# Altium schematic symbol library 电容.SchLib: 93 symbols
Pins are listed as number, name and electrical type; pins without a type are passive.

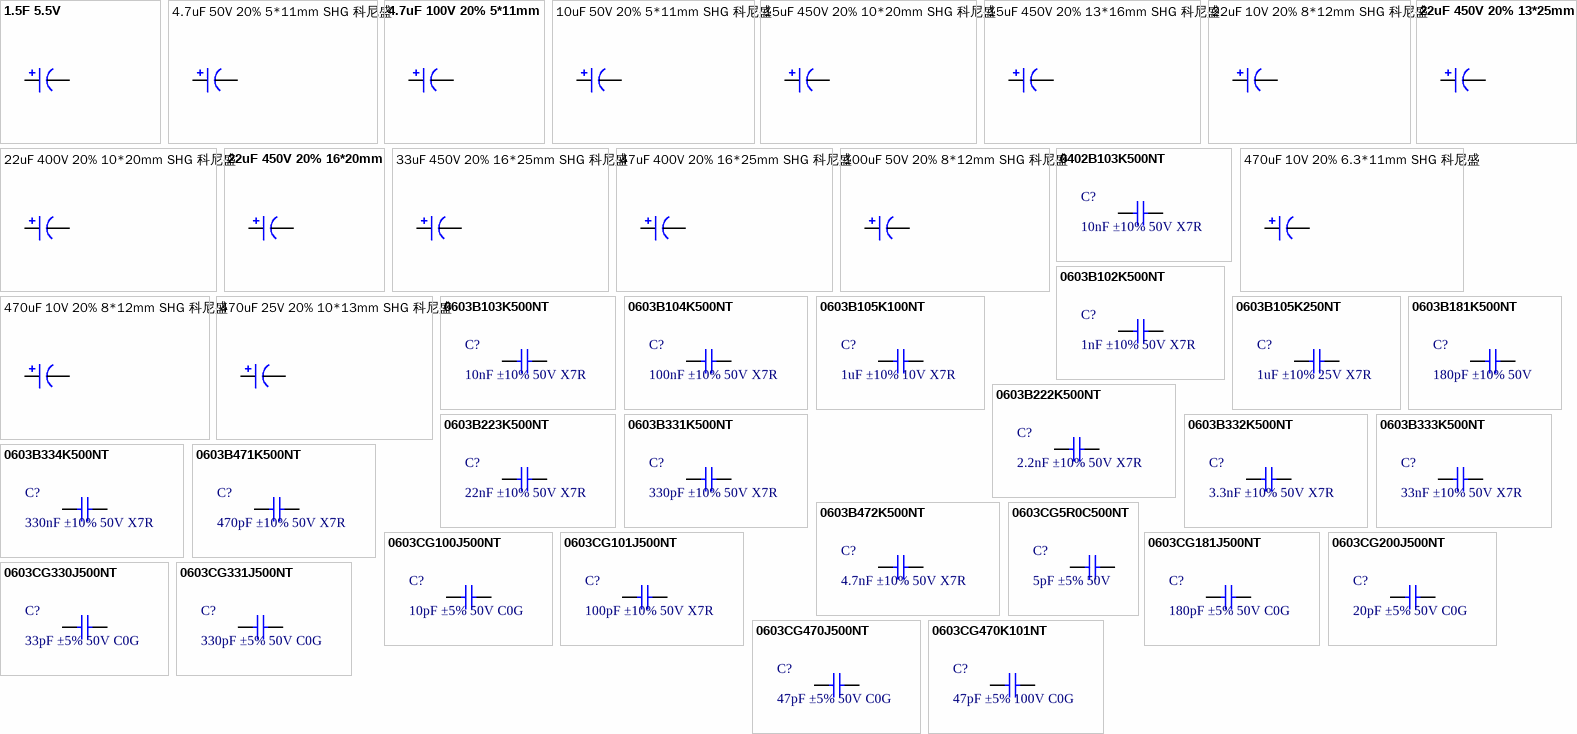
[diagram p0: symbols 1.5F 5.5V to 0603CG470K101NT]

## 1.5F 5.5V
designator CAP?
超级电容 V型 P=5mm; 金蝶料号: 010101080001; 工作温度: -25~70; 插件/贴片: 插件; 器件状态: 启用; 厂家型号: 1.5F 5.5V; ComponentLink1Description: datasheet; ComponentLink1URL: *
footprint CAP_SUP-4.5*19mm
pins: 1, 2

## 4.7uF 50V 20% 5*11mm SHG 科尼盛
designator CAP?, comment 4.7uF 50V 20%
插件电解电容  4.7uF ±20% 50V 7000h 5mm*11mm P=2mm; 厂家: 科尼盛; 厂家型号: 4.7uF 50V 20%  SHG; 金蝶料号: 010101040025; 工作温度: -55℃∽ +105℃; 插件/贴片: 插件; 器件状态: 启用; 值: 4.7uF ±20% 50V 7000h 5mm*11mm P=2mm; ComponentLink1Description: New link; ComponentLink1URL: *
footprint CAP 2.0*5*11 (Footprint not found)
pins: 1, 2

## 4.7uF 100V 20% 5*11mm
designator CAP?, comment 4.7uF 100V 20%
插件电解电容  4.7uF ±20% 100V 7000h 5mm*11mm P=2mm; 厂家: 科尼盛; 厂家型号: 4.7uF 100V 20%  SHG; 金蝶料号: 010101040051; 工作温度: -55℃∽ +105℃; 插件/贴片: 插件; 器件状态: 启用; 值: 4.7uF ±20% 100V; ComponentLink1Description: New link; ComponentLink1URL: *
footprint CAP 2.0*5*11 (Footprint not found)
pins: 1, 2

## 10uF 50V 20% 5*11mm SHG 科尼盛
designator CAP?, comment 10uF 50V 20%
插件电解电容  10uF ±20% 50V 7000h 5mm*11mm P=2mm; 厂家: 科尼盛; 厂家型号: 10uF 50V 20%  SHG; 金蝶料号: 010101040046; 工作温度: -55℃∽ +105℃; 插件/贴片: 插件; 器件状态: 启用; ComponentLink1Description: New link; ComponentLink1URL: *
footprint CAP 2.0*5*11 (Footprint not found)
pins: 1, 2

## 15uF 450V 20% 10*20mm SHG 科尼盛
designator CAP?, comment 15uF 450V 20%
插件电解电容 15uF 450V 20% 10*20mm P=5mm; 厂家: 科尼盛; 厂家型号: 15uF 450V 20% 10*20mm SHG; 金蝶料号: 010101040039; 工作温度: -40℃∽ +105℃; 插件/贴片: 插件; 器件状态: 启用; 值: 15uF 450V 20%; ComponentLink1Description: New link; ComponentLink1URL: *
footprint CAP 5.0*10*20 (脚距5mm直径10mm高度20mm)
footprint CAP 5.0*10*20-H (脚距5mm直径10mm高度20mm)
pins: 1, 2

## 15uF 450V 20% 13*16mm SHG 科尼盛
designator CAP?, comment 15uF 450V 20%
插件电解电容 15uF 450V 20% 13*16mm P=5mm; 厂家: 科尼盛; 厂家型号: 15uF 450V 20% 13*16mm  SHG; 金蝶料号: 010101040040; 工作温度: -40℃∽ +105℃; 插件/贴片: 插件; 器件状态: 启用; 值: 15uF 450V 20%; ComponentLink1Description: New link; ComponentLink1URL: *
footprint CAP 5.0*13*16 (脚距5mm直径13mm高度16mm)
footprint CAP 5.0*13*16-H (脚距5mm直径13mm高度16mm)
pins: 1, 2

## 22uF 10V 20% 8*12mm SHG 科尼盛
designator CAP?, comment 1000uF 10V 20%
插件电解电容  1000uF 10V 20% 8000H 8*12mm P=3.5mm; 厂家: 科尼盛; 厂家型号: 1000uF 10V 20% 10*20mm SHG; 金蝶料号: 010101040023; 工作温度: -55℃∽ +105℃; 插件/贴片: 插件; 器件状态: 启用; 值: 1000uF 10V 20% 8000H 8*12mm P=3.5mm; ComponentLink1Description: New link; ComponentLink1URL: *
footprint CAP 5.0*13*20 (脚距5mm直径13mm高度20mm)
footprint CAP 5.0*13*20-H (脚距5mm直径13mm高度20mm)
pins: 1, 2

## 22uF 400V 20% 10*20mm SHG 科尼盛
designator CAP?, comment 22uF 400V 20%
插件电解电容  22uF ±20% 400V 10000h 10*20mm P=5mm; 厂家: 科尼盛; 厂家型号: 22uF 400V 20%  SHG; 金蝶料号: 010101040044; 工作温度: -40℃∽ +105℃; 插件/贴片: 插件; 器件状态: 启用; ComponentLink1Description: New link; ComponentLink1URL: *
footprint CAP 5.0*10*20 (脚距5mm直径10mm高度20mm)
pins: 1, 2

## 22uF 450V 20% 13*25mm
designator CAP?, comment 22uF 450V 20%
插件电解电容 22uF 450V 20% 13*25mm P=5mm; 厂家: 科尼盛; 厂家型号: 22uF 450V 20% 13*25mm  SHG; 金蝶料号: 010101040049; 工作温度: -40℃∽ +105℃; 插件/贴片: 插件; 器件状态: 启用; 值: 22uF 450V 20%; ComponentLink1Description: New link; ComponentLink1URL: *
footprint CAP 5.0*12.5*25 (脚距5mm直径12.5mm高度25mm)
footprint CAP 5.0*12.5*25-H (脚距5mm直径12.5mm高度25mm)
pins: 1, 2

## 22uF 450V 20% 16*20mm
designator CAP?, comment 22uF 450V 20%
插件电解电容 22uF 450V 20% 16*20mm P=7.5mm; 厂家: 科尼盛; 厂家型号: 22uF 450V 20% 16*20mm  SHG; 金蝶料号: 010101040050; 工作温度: -40℃∽ +105℃; 插件/贴片: 插件; 器件状态: 启用; 值: 22uF 450V 20%; ComponentLink1Description: New link; ComponentLink1URL: *
footprint CAP 7.5*16*20-H (脚距7.5mm直径16mm高度20mm)
footprint CAP 7.5*16*20 (脚距7.5mm直径16mm高度20mm)
pins: 1, 2

## 33uF 450V 20% 16*25mm SHG 科尼盛
designator CAP?, comment 33uF 450V 20%
插件电解电容 33uF 450V 20% 16*25mm P=7.5mm; 厂家: 科尼盛; 厂家型号: 33uF 450V 20% 16*25mm  SHG; 金蝶料号: 010101040041; 工作温度: -40℃∽ +105℃; 插件/贴片: 插件; 器件状态: 启用; 值: 33uF 450V 20%; ComponentLink1Description: New link; ComponentLink1URL: *
footprint CAP 7.5*16*25 (脚距7.5mm直径16mm高度25mm)
footprint CAP 7.5*16*25-H (脚距7.5mm直径16mm高度25mm)
pins: 1, 2

## 47uF 400V 20% 16*25mm SHG 科尼盛
designator CAP?, comment 47uF 400V 20%
插件电解电容  47uF ±20% 400V 10000h 16*25mm P=7.5mm; 厂家: 科尼盛; 厂家型号: 47uF 400V 20%  SHG; 金蝶料号: 010101040024; 工作温度: -40℃∽ +105℃; 插件/贴片: 插件; 器件状态: 启用; 值: 47uF ±20% 400V 10000h 16*25mm P=7.5mm; ComponentLink1Description: New link; ComponentLink1URL: *
footprint CAP 7.5*16*25-H (脚距7.5mm直径16mm高度25mm)
pins: 1, 2

## 100uF 50V 20% 8*12mm SHG 科尼盛
designator CAP?, comment 100uF 50V  20%
插件电解电容  100uF 50V 20% 8000H 8*12mm P=3.5mm; 厂家: 科尼盛; 厂家型号: 100uF 25V 20% 8*12mm SHG; 金蝶料号: 010101040044; 工作温度: -55℃∽ +105℃; 插件/贴片: 插件; 器件状态: 启用; ComponentLink1Description: New link; ComponentLink1URL: *
footprint CAP 3.5*8*11.5 (脚距3.5mm直径8mm高度11.5mm)
pins: 1, 2

## 0402B103K500NT
designator C?, comment 10nF ±10% 50V X7R
贴片电容 10nF ±10% 50V X7R 0402; 厂家: 风华; 厂家型号: 0402B103K500NT; 金蝶料号: 010101010087; 工作温度: -55~125℃; 插件/贴片: 贴片; 器件状态: 启用; 值: 10nF
footprint 0402_C
pins: 1, 2

## 470uF 10V 20% 6.3*11mm SHG 科尼盛
designator CAP?, comment 470uF 10V 20%
插件电解电容  470uF ±20% 10V 7000h 6.3mm*11mm P=2.5mm; 厂家: 科尼盛; 厂家型号: 470uF 10V 20%  SHG 6.3*11mm; 金蝶料号: 010101040026; 工作温度: -55℃∽ +105℃; 插件/贴片: 插件; 器件状态: 启用; 值: 470uF ±20% 10V 7000h 6.3mm*11mm P=2.5mm; ComponentLink1Description: New link; ComponentLink1URL: *
footprint CAP 2.5*6.3*11 (脚距2.5mm直径6.3mm高度11.2mm)
pins: 1, 2

## 470uF 10V 20% 8*12mm SHG 科尼盛
designator CAP?, comment 470uF 10V 20%
插件电解电容  470uF ±20% 10V 8000h 8mm*12mm P=3.5mm; 厂家: 科尼盛; 厂家型号: 470uF 10V 20%  SHG; 金蝶料号: 010101040021; 工作温度: -55℃∽ +105℃; 插件/贴片: 插件; 器件状态: 启用; 值: 470uF ±20% 10V 8000h 8mm*12mm P=3.5mm; ComponentLink1Description: New link; ComponentLink1URL: *
footprint CAP 3.5*8*12 (脚距3.5mm直径8mm高度11.5mm)
pins: 1, 2

## 470uF 25V 20% 10*13mm SHG 科尼盛
designator CAP?, comment 470uF 25V 20%
插件电解电容  470uF ±20% 25V 10000h 10mm*13mm P=5mm; 厂家: 科尼盛; 厂家型号: 470uF 25V 20%  SHG; 金蝶料号: 010101040043; 工作温度: -55℃∽ +105℃; 插件/贴片: 插件; 器件状态: 启用; ComponentLink1Description: New link; ComponentLink1URL: *
footprint CAP 5.0*10*12.5 (脚距5mm直径10mm高度12.5mm)
pins: 1, 2

## 0603B102K500NT
designator C?, comment 1nF ±10% 50V X7R
贴片电容 1nF ±10% 50V X7R 0603; 厂家: 风华; 厂家型号: 0603B102K500NT; 金蝶料号: 010101010094; 工作温度: -55~125℃; 插件/贴片: 贴片; 器件状态: 启用; 值: 1nF ±10% 50V X7R 0603
footprint 0603_C
pins: 1, 2

## 0603B103K500NT
designator C?, comment 10nF ±10% 50V X7R
贴片电容 10nF ±10% 50V X7R 0603; 厂家: 风华; 厂家型号: 0603B103K500NT; 金蝶料号: 010101010099; 工作温度: -55~125℃; 插件/贴片: 贴片; 器件状态: 启用; 值: 10nF
footprint 0603_C
pins: 1, 2

## 0603B104K500NT
designator C?, comment 100nF ±10% 50V X7R
贴片电容 100nF ±10% 50V X7R 0603; 厂家: 风华; 厂家型号: 0603B104K500NT; 金蝶料号: 010101010100; 工作温度: -55~125℃; 插件/贴片: 贴片; 器件状态: 启用; 值: 100nF
footprint 0603_C
pins: 1, 2

## 0603B105K100NT
designator C?, comment 1uF ±10% 10V X7R
贴片电容 1uF ±10% 10V X7R 0603; 厂家: 风华; 厂家型号: 0603B105K100NT; 金蝶料号: 010101010143; 工作温度: -55~125℃; 插件/贴片: 贴片; 器件状态: 启用; 值: 1uF
footprint 0603_C
pins: 1, 2

## 0603B105K250NT
designator C?, comment 1uF ±10% 25V X7R
贴片电容 1uF ±10% 25V X7R 0603; 厂家: 风华; 厂家型号: 0603B105K250NT; 金蝶料号: 010101010083; 工作温度: -55~125℃; 插件/贴片: 贴片; 器件状态: 在用; 值: 1uF
footprint 0603_C
pins: 1, 2

## 0603B181K500NT
designator C?, comment 180pF ±10% 50V
贴片电容 180pF ±10% 50V X7R 0603; 厂家: 风华; 厂家型号: 0603B181K500NT; 金蝶料号: 010101010060; 工作温度: -55~125℃; 插件/贴片: 贴片; 器件状态: 启用; 值: 180pF
footprint 0603_C
pins: 1, 2

## 0603B222K500NT
designator C?, comment 2.2nF ±10% 50V X7R
贴片电容 2.2nF ±10% 50V X7R 0603; 厂家: 风华; 厂家型号: 0603B222K500NT; 金蝶料号: 010101010077; 工作温度: -55~155℃; 插件/贴片: 贴片; 值: 100pF; 器件状态: 启用
footprint 0603_C
pins: 1, 2

## 0603B223K500NT
designator C?, comment 22nF ±10% 50V X7R
贴片电容 22nF ±10% 50V X7R 0603; 厂家: 风华; 厂家型号: 0603B223K500NT; 金蝶料号: 010101010080; 工作温度: -55~125℃; 插件/贴片: 贴片; 器件状态: 启用; 值: 22nF
footprint 0603_C
pins: 1, 2

## 0603B331K500NT
designator C?, comment 330pF ±10% 50V X7R
贴片电容 330pF ±10% 50V X7R 0603; 厂家: 风华; 厂家型号: 0603B331K500NT; 金蝶料号: 010101010073; 工作温度: -55~125℃; 插件/贴片: 贴片; 器件状态: 启用; 值: 330pF
footprint 0603_C
pins: 1, 2

## 0603B332K500NT
designator C?, comment 3.3nF ±10% 50V X7R
贴片电容 3.3nF ±10% 50V X7R 0603; 厂家: 风华; 厂家型号: 0603B332K500NT; 金蝶料号: 010101010097; 工作温度: -55~125℃; 插件/贴片: 贴片; 器件状态: 启用; 值: 3.3nF
footprint 0603_C
pins: 1, 2

## 0603B333K500NT
designator C?, comment 33nF ±10% 50V X7R
贴片电容 33nF ±10% 50V X7R 0603; 厂家: 风华; 厂家型号: 0603B333K500NT; 金蝶料号: 010101010102; 工作温度: -55~125℃; 插件/贴片: 贴片; 器件状态: 启用; 值: 33nF
footprint 0603_C
pins: 1, 2

## 0603B334K500NT
designator C?, comment 330nF ±10% 50V X7R
贴片电容 330nF ±10% 50V X7R 0603; 厂家: 风华; 厂家型号: 0603B334K500NT; 金蝶料号: 010101010136; 工作温度: -55~125℃; 插件/贴片: 贴片; 器件状态: 启用; 值: 330nF ±10% 50V X7R
footprint 0603_C
pins: 1, 2

## 0603B471K500NT
designator C?, comment 470pF ±10% 50V X7R
贴片电容 470pF ±10% 50V X7R 0603; 厂家: 风华; 厂家型号: 0603B471K500NT; 金蝶料号: 010101010103; 工作温度: -55~125℃; 插件/贴片: 贴片; 器件状态: 启用; 值: 470pF
footprint 0603_C
pins: 1, 2

## 0603B472K500NT
designator C?, comment 4.7nF ±10% 50V X7R
贴片电容 4.7nF ±10% 50V X7R 0603; 厂家: 风华; 厂家型号: 0603B472K500NT; 金蝶料号: 010101010105; 工作温度: -55~125℃; 插件/贴片: 贴片; 器件状态: 启用; 值: 4.7nF
footprint 0603_C
pins: 1, 2

## 0603CG5R0C500NT
designator C?, comment 5pF ±5% 50V
贴片电容 5pF ±5% 50V C0G 0603; 厂家: 风华; 厂家型号: 0603CG5R0C500NT; 金蝶料号: 010101010070; 工作温度: -55~125℃; 插件/贴片: 贴片; 器件状态: 启用; 值: 5pF
footprint 0603_C
pins: 1, 2

## 0603CG100J500NT
designator C?, comment 10pF ±5% 50V C0G
贴片电容10pF ±5% 50V C0G 0603; 厂家: 风华; 厂家型号: 0603CG100J500NT; 金蝶料号: 010101010033; 工作温度: ℃; 插件/贴片: 贴片; 器件状态: 启用; 值: 10pF
footprint 0603_C
pins: 1, 2

## 0603CG101J500NT
designator C?, comment 100pF ±10% 50V X7R
贴片电容 100pF ±10% 50V NP0 0603; 厂家: 风华; 厂家型号: 0603B101K500NT; 金蝶料号: 010101010081; 工作温度: -55~125℃; 插件/贴片: 贴片; 器件状态: 启用; 值: 100pF
footprint 0603_C
pins: 1, 2

## 0603CG181J500NT
designator C?, comment 180pF ±5% 50V C0G
贴片电容 180pF ±5% 50V C0G 0603; 厂家: 风华; 厂家型号: 0603CG181J500NT; 金蝶料号: 010101010101; 工作温度: -55~125℃; 插件/贴片: 贴片; 器件状态: 启用; 值: 180pF
footprint 0603_C
pins: 1, 2

## 0603CG200J500NT
designator C?, comment 20pF ±5% 50V C0G
贴片电容 20pF ±5% 50V C0G 0603; 厂家: 风华; 厂家型号: 0603CG200J500NT; 金蝶料号: 010101010045; 工作温度: -55~125℃; 插件/贴片: 贴片; 器件状态: 启用; 值: 20pF
footprint 0603_C
pins: 1, 2

## 0603CG330J500NT
designator C?, comment 33pF ±5% 50V C0G
贴片电容 33pF ±5% 50V C0G 0603; 厂家: 风华; 厂家型号: 0603CG330J500NT; 金蝶料号: 010101010048; 工作温度: -55~125℃; 插件/贴片: 贴片; 器件状态: 启用; 值: 33pF
footprint 0603_C
pins: 1, 2

## 0603CG331J500NT
designator C?, comment 330pF ±5% 50V C0G
贴片电容 330pF ±5% 50V C0G 0603; 厂家: 风华; 厂家型号: 0603CG331J500NT; 金蝶料号: 010101010090; 工作温度: -55~125℃; 插件/贴片: 贴片; 器件状态: 启用; 值: 330pF
footprint 0603_C
pins: 1, 2

## 0603CG470J500NT
designator C?, comment 47pF ±5% 50V C0G
贴片电容 47pF ±5% 50V C0G 0603; 厂家: 风华; 厂家型号: 0603CG470J500NT; 金蝶料号: 010101010027; 工作温度: -55~125℃; 插件/贴片: 贴片; 器件状态: 启用; 值: 47pF
footprint 0603_C
pins: 1, 2

## 0603CG470K101NT
designator C?, comment 47pF ±5% 100V C0G
贴片电容 47pF ±5% 100V C0G 0603; 厂家: 风华; 厂家型号: 0603CG470K101NT; 金蝶料号: 010101010096; 工作温度: ℃; 插件/贴片: 贴片; 器件状态: 启用; 值: 47pF
footprint 0603_C
pins: 1, 2

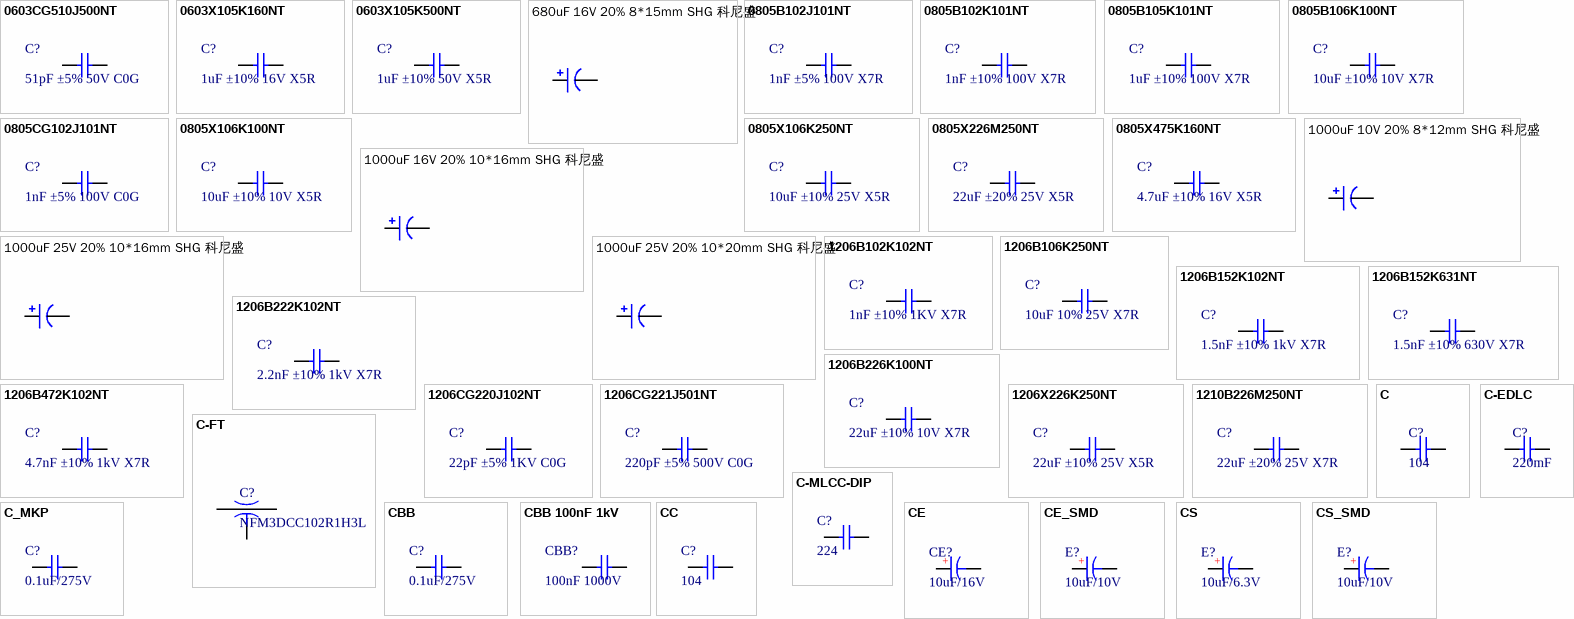
[diagram p1: symbols 0603CG510J500NT to CS_SMD]

## 0603CG510J500NT
designator C?, comment 51pF ±5% 50V C0G
贴片电容 51pF ±5% 50V C0G 0603; 厂家: 风华; 厂家型号: 0603CG510J500NT; 金蝶料号: 010101010071; 工作温度: -55~125℃; 插件/贴片: 贴片; 器件状态: 启用; 值: 51pF
footprint 0603_C
pins: 1, 2

## 0603X105K160NT
designator C?, comment 1uF ±10% 16V X5R
贴片电容 1uF ±10% 16V X5R 0603; 厂家: 风华; 厂家型号: 0603X105K160NT; 金蝶料号: 010101010112; 工作温度: -55~125℃; 插件/贴片: 贴片; 器件状态: 启用; 值: 1uF
footprint 0603_C
pins: 1, 2

## 0603X105K500NT
designator C?, comment 1uF ±10% 50V X5R
贴片电容 1uF ±10% 50V X5R 0603; 厂家: 风华; 厂家型号: 0603X105K500NT; 金蝶料号: 010101010123; 工作温度: -55~125℃; 插件/贴片: 贴片; 器件状态: 启用; 值: 1uF
footprint 0603_C
pins: 1, 2

## 680uF 16V 20% 8*15mm SHG 科尼盛
designator CAP?, comment 680uF 16V 20%
插件电解电容  680uF ±20% 16V 8000h 8mm*15mm P=3.5mm; 厂家: 科尼盛; 厂家型号: 680uF 16V 20% 8*15mm SHG; 金蝶料号: 010101040027; 工作温度: -55℃~+105℃; 插件/贴片: 插件; 器件状态: 启用; 值: 680uF ±20% 16V 8000h 8mm*15mm P=3.5mm; ComponentLink1Description: New link; ComponentLink1URL: *
footprint CAP 3.5*8*15 (脚距3.5mm直径8mm高度15mm)
pins: 1, 2

## 0805B102J101NT
designator C?, comment 1nF ±5% 100V X7R
贴片电容 1nF ±5% 100V X7R 0805; 厂家: 风华; 厂家型号: 0805B102J101NT; 金蝶料号: 010101010111; 工作温度: -55~125℃; 插件/贴片: 贴片; 器件状态: 启用; 值: 1nF
footprint 0805_C
pins: 1, 2

## 0805B102K101NT
designator C?, comment 1nF ±10% 100V X7R
贴片电容 1nF ±10% 100V X7R 0805; 厂家: 风华; 厂家型号: 0805B102K101NT; 金蝶料号: 010101010098; 工作温度: -55~125℃; 插件/贴片: 贴片; 器件状态: 启用; 值: 1nF
footprint 0805_C
pins: 1, 2

## 0805B105K101NT
designator C?, comment 1uF ±10% 100V X7R
贴片电容 1uF ±10% 100V X7R 0805; 厂家: 风华; 厂家型号: 0805B105K101NT; 金蝶料号: 010101010113; 工作温度: -55~125℃; 插件/贴片: 贴片; 器件状态: 启用; 值: 1uF
footprint 0805_C
pins: 1, 2

## 0805B106K100NT
designator C?, comment 10uF ±10% 10V X7R
贴片电容 10uF ±10% 10V X7R 0805; 厂家: 风华; 厂家型号: 0805B106K100NT; 金蝶料号: 010101010130; 工作温度: -55~85℃; 插件/贴片: 贴片; 器件状态: 启用; 值: 10uF
footprint 0805_C
pins: 1, 2

## 0805CG102J101NT
designator C?, comment 1nF ±5% 100V C0G
贴片电容 1nF ±5% 100V C0G 0805; 厂家: 风华; 厂家型号: 0805CG102J101NT; 金蝶料号: 010101010092; 工作温度: ℃; 插件/贴片: 贴片; 器件状态: 启用; 值: *
footprint 0805_C
pins: 1, 2

## 0805X106K100NT
designator C?, comment 10uF ±10% 10V X5R
贴片电容 10uF ±10% 10V X5R 0805; 厂家: 风华; 厂家型号: 0805X106K100NT; 金蝶料号: 010101010095; 工作温度: -55~85℃; 插件/贴片: 贴片; 器件状态: 启用; 值: 10uF
footprint 0805_C
pins: 1, 2

## 0805X106K250NT
designator C?, comment 10uF ±10% 25V X5R
贴片电容 10uF ±10% 25V X5R 0805; 厂家: 风华; 厂家型号: 0805X106K250NT; 金蝶料号: 010101010104; 工作温度: -55~85℃; 插件/贴片: 贴片; 器件状态: 启用; 值: 10uF
footprint 0805_C
pins: 1, 2

## 0805X226M250NT
designator C?, comment 22uF ±20% 25V X5R
贴片电容 22uF ±20% 25V X5R 0805; 厂家: 风华; 厂家型号: 0805X226M250NT; 金蝶料号: 010101010085; 工作温度: -55~85℃; 插件/贴片: 贴片; 器件状态: 启用; 值: 22uF
footprint 0805_C
pins: 1, 2

## 0805X475K160NT
designator C?, comment 4.7uF ±10% 16V X5R
贴片电容 4.7uF ±10% 16V X5R 0805; 厂家: 风华; 厂家型号: 0805X475K160NT; 金蝶料号: 010101010086; 工作温度: -55~85℃; 插件/贴片: 贴片; 器件状态: 启用; 值: 4.7uF
footprint 0603_C
pins: 1, 2

## 1000uF 10V 20% 8*12mm SHG 科尼盛
designator CAP?, comment 1000uF 10V 20%
插件电解电容  1000uF 10V 20% 8000H 8*12mm P=3.5mm; 厂家: 科尼盛; 厂家型号: 1000uF 10V 20% 10*20mm SHG; 金蝶料号: 010101040023; 工作温度: -55℃∽ +105℃; 插件/贴片: 插件; 器件状态: 启用; 值: 1000uF 10V 20% 8000H 8*12mm P=3.5mm; ComponentLink1Description: New link; ComponentLink1URL: *
footprint CAP 3.5*8*12 (脚距3.5mm直径8mm高度11.5mm)
pins: 1, 2

## 1000uF 16V 20% 10*16mm SHG 科尼盛
designator CAP?, comment 1000uF 16V 20%
插件电解电容  1000uF 16V 20% 10000H 10*16mm P=5mm; 厂家: 科尼盛; 厂家型号: 1000uF 16V 20% 10*20mm SHG; 金蝶料号: 010101040016; 工作温度: -55℃∽ +105℃; 插件/贴片: 插件; 器件状态: 启用; 值: 1000uF 16V 20% 10000H 10*16mm P=5mm; ComponentLink1Description: New link; ComponentLink1URL: *
footprint CAP 5.0*10*16 (Footprint not found)
pins: 1, 2

## 1000uF 25V 20% 10*16mm SHG 科尼盛
designator CAP?, comment 1000uF 25V 20%
插件电解电容  1000uF 25V 20% 10000H 10*16mm P=5mm; 厂家: 科尼盛; 厂家型号: 1000uF 25V 20% 10*16mm SHG; 金蝶料号: 010101040022; 工作温度: -55℃∽ +105℃; 插件/贴片: 插件; 器件状态: 启用; 值: 1000uF 25V 20% 10000H 10*16mm P=5mm; ComponentLink1Description: New link; ComponentLink1URL: *
footprint CAP 5.0*10*16 (脚距5mm直径10mm高度16mm)
pins: 1, 2

## 1000uF 25V 20% 10*20mm SHG 科尼盛
designator CAP?, comment 1000uF 25V 20%
插件电解电容  1000uF 25V 20% 10000H 10*20mm P=5mm; 厂家: 科尼盛; 厂家型号: 1000uF 25V 20% 10*20mm SHG; 金蝶料号: 010101040015; 工作温度: -55℃∽ +105℃; 插件/贴片: 插件; 器件状态: 启用; 值: 1000uF 25V 20% 10000H 10*20mm P=5mm; ComponentLink1Description: New link; ComponentLink1URL: *
footprint CAP 5.0*10*20 (脚距5mm直径10mm高度20mm)
pins: 1, 2

## 1206B102K102NT
designator C?, comment 1nF ±10% 1KV X7R
贴片电容 1nF ±10% 1KV X7R 1206; 厂家: 风华; 厂家型号: 1206B226M100NT; 金蝶料号: 010101010135; 工作温度: -55~125℃; 插件/贴片: 贴片; 器件状态: 在用; 值: 1nF ±10% 1KV X7R 1206
footprint 1206_C
pins: 1, 2

## 1206B106K250NT
designator C?, comment 10uF 10% 25V X7R
贴片电容 10uF ±10% 25V X7R 1206; 厂家: 风华; 厂家型号: 1206B106K250NT; 金蝶料号: 010101010082; 工作温度: -55~125℃; 插件/贴片: 贴片; 器件状态: 在用; 值: 10uF
footprint 1206_C
pins: 1, 2

## 1206B152K102NT
designator C?, comment 1.5nF ±10% 1kV X7R
贴片电容 1.5nF ±10% 1kV X7R 1206; 厂家: 风华; 厂家型号: 1206B152K102NT; 金蝶料号: 010101010093; 工作温度: -55~125℃; 插件/贴片: 贴片; 器件状态: 启用; 值: 1.5nF
footprint 1206_C
pins: 1, 2

## 1206B152K631NT
designator C?, comment 1.5nF ±10% 630V X7R
贴片电容 1.5nF ±10% 630V X7R 1206; 厂家: 风华; 厂家型号: 1206B152K631NT; 金蝶料号: 010101010107; 工作温度: -55~125℃; 插件/贴片: 贴片; 器件状态: 启用; 值: 1.5nF
footprint 1206_C
pins: 1, 2

## 1206B222K102NT
designator C?, comment 2.2nF ±10% 1kV X7R
贴片电容 2.2nF ±10% 1kV X7R 1206; 厂家: 风华; 厂家型号: 1206B222K102NT; 金蝶料号: 010101010137; 工作温度: -55~125℃; 插件/贴片: 贴片; 器件状态: 启用
footprint 1206_C
pins: 1, 2

## 1206B226K100NT
designator C?, comment 22uF ±10% 10V X7R
贴片电容 22uF ±10% 10V X7R 1206; 厂家: 风华; 厂家型号: 1206B226K100NT; 金蝶料号: 010101010140; 工作温度: -55~125℃; 插件/贴片: 贴片; 器件状态: 在用; 值: 22uF
footprint 1206_C
pins: 1, 2

## 1206B472K102NT
designator C?, comment 4.7nF ±10% 1kV X7R
贴片电容 4.7nF ±10% 1kV X7R 1206; 厂家: 风华; 厂家型号: 1206B472K102NT; 金蝶料号: 010101010138; 工作温度: -55~125℃; 插件/贴片: 贴片; 器件状态: 启用
footprint 1206_C
pins: 1, 2

## 1206CG220J102NT
designator C?, comment 22pF ±5% 1KV C0G
贴片电容 22pF ±5% 1KV C0G 1206; 厂家: 风华; 厂家型号: 1206CG220J102NT; 金蝶料号: 010101010134; 工作温度: -55~125℃; 插件/贴片: 贴片; 器件状态: 在用; 值: 22pF ±5% 1KV C0G 1206
footprint 1206_C
pins: 1, 2

## 1206CG221J501NT
designator C?, comment 220pF ±5% 500V C0G
贴片电容 220pF ±5% 500V C0G 1206; 厂家: 风华; 厂家型号: 1206CG221J501NT; 金蝶料号: 010101010139; 工作温度: -55~125℃; 插件/贴片: 贴片; 器件状态: 在用
footprint 1206_C
pins: 1, 2

## 1206X226K250NT
designator C?, comment 22uF ±10% 25V X5R
贴片电容 22uF ±10% 25V X5R 1206; 厂家: 风华; 厂家型号: 1206X226K250NT; 金蝶料号: 010101010091; 工作温度: -55~125℃; 插件/贴片: 贴片; 器件状态: 在用; 值: 22uF
footprint 1206_C
pins: 1, 2

## 1210B226M250NT
designator C?, comment 22uF ±20% 25V X7R
贴片电容 22uF ±20% 25V X7R 1210; 厂家: 风华; 厂家型号: 1210B226M250NT; 金蝶料号: 010101010132; 工作温度: -55~125℃; 插件/贴片: 贴片; 器件状态: 在用; 值: 22uF
footprint 1210_C
pins: 1, 2

## C
designator C?, comment 104
贴片电容/MLCC电容; BOM名称: 无极性贴片电容; 当前库版本V2023.5.31 @淘宝卖家:黄晶宝石: 最新版本发布https://item.taobao.com/item.htm?id=566775463719
footprint C0201_L (贴片MLCC电容)
footprint C0402_L (贴片MLCC电容)
footprint C1206_L (贴片MLCC电容)
footprint C1210_L (贴片MLCC电容)
footprint C1808_L (贴片MLCC电容)
footprint C1812_L (贴片MLCC电容                  联系卖家 免费查找封装)
footprint C1825_L (贴片MLCC电容)
footprint C2225_L (贴片MLCC电容)
footprint C0201_M (贴片MLCC电容                联系卖家 免费查找封装)
footprint C0402_M (贴片MLCC电容)
footprint C0603_M (贴片MLCC电容)
footprint C1206_M (贴片MLCC电容)
footprint C1210_M (贴片MLCC电容)
footprint C1808_M (贴片MLCC电容)
footprint C1812_M (贴片MLCC电容)
footprint C1825_M (贴片MLCC电容      联系卖家 免费查找封装)
footprint C2225_M (贴片MLCC电容)
footprint C0201_NS (贴片MLCC电容-无丝印)
footprint C0402_NS (贴片MLCC电容-无丝印)
footprint C1206_NS (贴片MLCC电容-无丝印)
footprint C1210_NS (贴片MLCC电容 -无丝印)
footprint C0204_NS (贴片MLCC电容-无丝印)
footprint C1111_NS (贴片MLCC电容-无丝印)
footprint C2220 (贴片MLCC电容)
footprint C3838 (贴片MLCC电容-无丝印)
pins: 1, 2

## C-EDLC
designator C?, comment 220mF
超级电容/双电层电容器; BOM名称: 法拉电容; 当前库版本V2023.5.31 @淘宝卖家:黄晶宝石: 最新版本发布https://item.taobao.com/item.htm?id=566775463719
footprint C-EDLC-TH_D21.5-P5.00-H7.5 (双电层电容器)
pins: 1, 2

## C-FT
designator C?, comment NFM3DCC102R1H3L
贴片馈通电容/穿芯三端滤波电容; 当前库版本V2023.5.31 @淘宝卖家:黄晶宝石: 最新版本发布https://item.taobao.com/item.htm?id=566775463719; BOM名称: NFM3DCC102R1H3L
footprint C1205_FT_4P-L3.2-W1.3 (贴片穿心电容馈通滤波器)
pins: 1, 2, 3

## C-MLCC-DIP
designator C?, comment 224
直插独石电容; BOM名称: 独石电容; 当前库版本V2023.5.31 @淘宝卖家:黄晶宝石: 最新版本发布https://item.taobao.com/item.htm?id=566775463719
footprint MLCC5.08-A (独石电容，脚距5.08mm)
pins: 1, 2

## C_MKP
designator C?, comment 0.1uF/275V
金属化聚丙烯薄膜电容; BOM名称: X电容; 当前库版本V2023.5.31 @淘宝卖家:黄晶宝石: 最新版本发布https://item.taobao.com/item.htm?id=566775463719
footprint MKP_P22.5-L26-W6-H16-D1.0
footprint MKP_P27.5-L31.5-W11.0-H21.0-D1.0
footprint MKP_P27.5-L31.5-W13.0-H23.0-D1.0
pins: 1, 2

## CBB
designator C?, comment 0.1uF/275V
CBB电容; 当前库版本V2023.5.31 @淘宝卖家:黄晶宝石: 最新版本发布https://item.taobao.com/item.htm?id=566775463719; BOM名称: CBB电容
footprint CBB 10*12*8 (脚距10mm高12mm厚8mm)
footprint CBB 15*18*11 (脚距15mm高18mm厚11mm)
footprint CBB 20*23*17 (脚距20mm高23mm厚17mm)
footprint CBB 5*6.3*3 (脚距5mm高6.3mm厚3mm)
footprint CBB-CL71 (7.2mm*2.3mm*6.5mm(长*宽*高）)
pins: 1, 2

## CBB 100nF 1kV
designator CBB?, comment 100nF 1000V
CBB 100nF 1000V P=15mm; 厂家型号: CBB 100nF 1kV; 金蝶料号: 010101070007; 工作温度: -40~105℃; 插件/贴片: 插件; 器件状态: 启用
footprint CY P=10mm
pins: 1, 2

## CC
designator C?, comment 104
瓷片电容; BOM名称: 直插瓷片电容; 当前库版本V2023.5.31 @淘宝卖家:黄晶宝石: 最新版本发布https://item.taobao.com/item.htm?id=566775463719
footprint CC 1.8*3.6 (脚距1.8mm直径3.6mm)
footprint CC 2.2*5 (脚距2.2mm直径5mm)
pins: 1, 2

## CE
designator CE?, comment 10uF/16V
直插电解电容; 当前库版本V2023.5.31 @淘宝卖家:黄晶宝石: 最新版本发布https://item.taobao.com/item.htm?id=566775463719; BOM名称: 直插电解电容
footprint CE-1.5*4*8 (直插电解电容-脚距1.5mm直径4mm高度8mm)
footprint CE-1.5*4*8 - BK (直插电解电容-脚距1.5mm直径4mm高度8mm      联系卖家 免费查找封装)
footprint CE-1.5*4*8 - GD (直插电解电容-脚距1.5mm直径4mm高度8mm)
footprint CE-1.5*4*8-H (直插电解电容-脚距1.5mm直径4mm高度8mm)
footprint CE-1.5*4*8-H - BK (直插电解电容-脚距1.5mm直径4mm高度8mm)
footprint CE-1.5*4*8-H - GD (直插电解电容-脚距1.5mm直径4mm高度8mm         淘宝卖家ID:黄晶宝石)
footprint CE-2.0*5*11 (直插电解电容-脚距2mm直径5mm高度11mm)
footprint CE-2.0*5*11 - BK (直插电解电容-脚距2mm直径5mm高度11mm)
footprint CE-2.0*5*11 - GD (直插电解电容-脚距2mm直径5mm高度11mm)
footprint CE-2.0*5*11-H (直插电解电容-脚距2mm直径5mm高度11mm)
footprint CE-2.0*5*11-H - BK (直插电解电容-脚距2mm直径5mm高度11mm)
footprint CE-2.0*5*11-H - GD (直插电解电容-脚距2mm直径5mm高度11mm         淘宝卖家ID:黄晶宝石)
footprint CE-2.5*5*11 (直插电解电容-脚距2.5mm直径5mm高度11mm)
footprint CE-2.5*5*11 - BK (直插电解电容-脚距2.5mm直径5mm高度11mm)
footprint CE-2.5*5*11 - GD (直插电解电容-脚距2.5mm直径5mm高度11mm)
footprint CE-2.5*5*11-H (直插电解电容-脚距2.5mm直径5mm高度11mm)
footprint CE-2.5*5*11-H - BK (直插电解电容-脚距2.5mm直径5mm高度11mm)
footprint CE-2.5*5*11-H - GD (直插电解电容-脚距2.5mm直径5mm高度11mm)
footprint CE-2.5*6.3*7 (直插电解电容-脚距2.5mm直径6.3mm高度7mm)
footprint CE-2.5*6.3*7 - BK (直插电解电容-脚距2.5mm直径6.3mm高度7mm)
footprint CE-2.5*6.3*7 - GD (直插电解电容-脚距2.5mm直径6.3mm高度7mm)
footprint CE-2.5*6.3*7-H (直插电解电容-脚距2.5mm直径6.3mm高度7mm)
footprint CE-2.5*6.3*7-H - BK (直插电解电容-脚距2.5mm直径6.3mm高度7mm)
footprint CE-2.5*6.3*7-H - GD (直插电解电容-脚距2.5mm直径6.3mm高度7mm         淘宝卖家ID:黄晶宝石)
footprint CE-2.5*6.3*11.2 (直插电解电容-脚距2.5mm直径6.3mm高度11.2mm)
footprint CE-2.5*6.3*11.2 - BK (直插电解电容-脚距2.5mm直径6.3mm高度11.2mm)
footprint CE-2.5*6.3*11.2 - GD (直插电解电容-脚距2.5mm直径6.3mm高度11.2mm)
footprint CE-2.5*6.3*11.2-H (直插电解电容-脚距2.5mm直径6.3mm高度11.2mm         淘宝卖家ID:黄晶宝石)
footprint CE-2.5*6.3*11.2-H - BK (直插电解电容-脚距2.5mm直径6.3mm高度11.2mm)
footprint CE-2.5*6.3*11.2-H - GD (直插电解电容-脚距2.5mm直径6.3mm高度11.2mm)
footprint CE-3.5*8*11.5 (脚距3.5mm直径8mm高度11.5mm                   联系卖家 免费查找封装)
footprint CE-3.5*8*11.5 - BK (脚距3.5mm直径8mm高度11.5mm)
footprint CE-3.5*8*11.5 - GD (脚距3.5mm直径8mm高度11.5mm)
footprint CE-3.5*8*11.5-H (脚距3.5mm直径8mm高度11.5mm)
footprint CE-3.5*8*11.5-H - BK (脚距3.5mm直径8mm高度11.5mm)
footprint CE-3.5*8*11.5-H - GD (脚距3.5mm直径8mm高度11.5mm)
footprint CE-5.0*10*12.5 (脚距5mm直径10mm高度12.5mm         淘宝ID:黄晶宝石)
footprint CE-5.0*10*12.5 - BK (脚距5mm直径10mm高度12.5mm)
footprint CE-5.0*10*12.5 - GD (脚距5mm直径10mm高度12.5mm)
footprint CE-5.0*10*12.5-H (脚距5mm直径10mm高度12.5mm         淘宝ID:黄晶宝石)
footprint CE-5.0*10*12.5-H - BK (脚距5mm直径10mm高度12.5mm)
footprint CE-5.0*10*12.5-H - GD (脚距5mm直径10mm高度12.5mm                 联系卖家 免费查找封装)
footprint CE-5.0*10*16 (脚距5mm直径10mm高度16mm)
footprint CE-5.0*10*16 - BK (脚距5mm直径10mm高度16mm)
footprint CE-5.0*10*16 - GD (脚距5mm直径10mm高度16mm)
footprint CE-5.0*10*16-H (脚距5mm直径10mm高度16mm)
footprint CE-5.0*10*16-H - BK (脚距5mm直径10mm高度16mm)
footprint CE-5.0*10*16-H - GD (脚距5mm直径10mm高度16mm)
footprint CE-5.0*10*20 (脚距5mm直径10mm高度20mm)
footprint CE-5.0*10*20 - BK (脚距5mm直径10mm高度20mm)
footprint CE-5.0*10*20 - GD (脚距5mm直径10mm高度20mm)
footprint CE-5.0*10*20-H (脚距5mm直径10mm高度20mm)
footprint CE-5.0*10*20-H - BK (脚距5mm直径10mm高度20mm)
footprint CE-5.0*10*20-H - GD (脚距5mm直径10mm高度20mm)
footprint CE-5.0*12.5*20 (脚距5mm直径12.5mm高度20mm)
footprint CE-5.0*12.5*20 - BK (脚距5mm直径12.5mm高度20mm)
footprint CE-5.0*12.5*20 - GD (脚距5mm直径12.5mm高度20mm)
footprint CE-5.0*12.5*20-H (脚距5mm直径12.5mm高度20mm)
footprint CE-5.0*12.5*20-H - BK (脚距5mm直径12.5mm高度20mm                 联系卖家 免费查找封装)
footprint CE-5.0*12.5*20-H - GD (脚距5mm直径12.5mm高度20mm)
footprint CE-5.0*12.5*25 (脚距5mm直径12.5mm高度25mm)
footprint CE-5.0*12.5*25 - BK (脚距5mm直径12.5mm高度25mm)
footprint CE-5.0*12.5*25 - GD (脚距5mm直径12.5mm高度25mm)
footprint CE-5.0*12.5*25-H (脚距5mm直径12.5mm高度25mm)
footprint CE-5.0*12.5*25-H - BK (脚距5mm直径12.5mm高度25mm)
footprint CE-5.0*12.5*25-H - GD (脚距5mm直径12.5mm高度25mm)
footprint CE-7.5*16*25 (脚距7.5mm直径16mm高度25mm)
footprint CE-7.5*16*25 - BK (脚距7.5mm直径16mm高度25mm)
footprint CE-7.5*16*25 - GD (脚距7.5mm直径16mm高度25mm)
footprint CE-7.5*16*25-H (脚距7.5mm直径16mm高度25mm)
footprint CE-7.5*16*25-H - BK (脚距7.5mm直径16mm高度25mm)
footprint CE-7.5*16*25-H - GD (脚距7.5mm直径16mm高度25mm)
footprint CE-7.5*16*31.5 (脚距7.5mm直径16mm高度31.5mm)
footprint CE-7.5*16*31.5 - BK (脚距7.5mm直径16mm高度31.5mm                 联系卖家 免费查找封装)
footprint CE-7.5*16*31.5 - GD (脚距7.5mm直径16mm高度31.5mm                 联系卖家 免费查找封装)
footprint CE-7.5*16*31.5-H (脚距7.5mm直径16mm高度31.5mm)
footprint CE-7.5*16*31.5-H - BK (脚距7.5mm直径16mm高度31.5mm)
footprint CE-7.5*16*31.5-H - GD (脚距7.5mm直径16mm高度31.5mm)
footprint CE-7.5*18*35.5 (直插电解电容-脚距7.5mm直径18mm高度35.5mm)
footprint CE-7.5*18*35.5 - BK (直插电解电容-脚距7.5mm直径18mm高度35.5mm)
footprint CE-7.5*18*35.5 - GD (直插电解电容-脚距7.5mm直径18mm高度35.5mm)
footprint CE-7.5*18*35.5-H (直插电解电容-脚距7.5mm直径18mm高度35.5mm)
footprint CE-7.5*18*35.5-H - BK (直插电解电容-脚距7.5mm直径18mm高度35.5mm)
footprint CE-7.5*18*35.5-H - GD (直插电解电容-脚距7.5mm直径18mm高度35.5mm)
footprint CE-10*22*31.5 (脚距10mm直径22mm高度31.5mm)
footprint CE-10*22*31.5 - BK (脚距10mm直径22mm高度31.5mm)
footprint CE-10*22*31.5 - GD (脚距10mm直径22mm高度31.5mm)
footprint CE-10*22*40 (脚距10mm直径22mm高度40mm)
footprint CE-10*22*40 - BK (脚距10mm直径22mm高度40mm)
footprint CE-10*22*40 - GD (脚距10mm直径22mm高度40mm)
pins: 1, 2
text: +

## CE_SMD
designator E?, comment 10uF/10V
贴片电解电容; 当前库版本V2023.5.31 @淘宝卖家:黄晶宝石: 最新版本发布https://item.taobao.com/item.htm?id=566775463719; BOM名称: 贴片电解电容
footprint CE A(3*5.4) (贴片电解电容，直径3mm，高5.4mm)
footprint CE B(4*5.4) (贴片电解电容，直径4mm，高5.4mm)
footprint CE C(5*5.4) (贴片电解电容，直径5mm，高5.4mm)
footprint CE D(6.3*5.4) (贴片电解电容，直径6.3mm，高5.4mm)
footprint CE D(6.3*7.7) (贴片电解电容，直径6.3mm，高7.7mm)
footprint CE E(8*6.2) (贴片电解电容，直径8mm，高6.2mm)
footprint CE E(8*10.2) (贴片电解电容，直径8mm，高10.2mm)
footprint CE F(10*10.2) (贴片电解电容，直径10mm，高10.2mm)
footprint CE G(12.5*13.5) (贴片电解电容，直径12.5mm，高13.5mm)
footprint CE G(12.5*16) (贴片电解电容，直径12.5mm，高16mm)
footprint CE H(16*16.5) (贴片电解电容，直径16mm，高16.5mm)
pins: 1, 2
text: +

## CS
designator E?, comment 10uF/6.3V
直插固态电容; 当前库版本V2023.5.31 @淘宝卖家:黄晶宝石: 最新版本发布https://item.taobao.com/item.htm?id=566775463719; BOM名称: 直插固态电容
footprint CT 2.0*5*8 - C (脚距2mm , 直径5mm , 高8mm)
footprint CT 2.0*5*8 - R (脚距2mm , 直径5mm , 高8mm)
footprint CT 2.0*5*8 - V (脚距2mm , 直径5mm , 高8mm)
footprint CT 2.5*6.3*7 - C (脚距2.5mm , 直径6.3mm , 高7mm)
footprint CT 2.5*6.3*7 - R (脚距2.5mm , 直径6.3mm , 高7mm)
footprint CT 2.5*6.3*7 - V (脚距2.5mm , 直径6.3mm , 高7mm)
footprint CT 2.5*6.3*11 - C (脚距2.5mm , 直径6.3mm , 高11mm)
footprint CT 2.5*6.3*11 - R (脚距2.5mm , 直径6.3mm , 高11mm)
footprint CT 2.5*6.3*11 - V (脚距2.5mm , 直径6.3mm , 高11mm)
footprint CT 3.5*8*8 - C (脚距3.5mm , 直径8mm , 高8mm)
footprint CT 3.5*8*8 - R (脚距3.5mm , 直径8mm , 高8mm)
footprint CT 3.5*8*8 - V (脚距3.5mm , 直径8mm , 高8mm)
footprint CT 3.5*8*11.5 - C (脚距3.5mm , 直径8mm , 高11.5mm)
footprint CT 3.5*8*11.5 - R (脚距3.5mm , 直径8mm , 高11.5mm)
footprint CT 3.5*8*11.5 - V (脚距3.5mm , 直径8mm , 高11.5mm)
footprint CT 5.0*10*13 - C (脚距5mm , 直径10mm , 高13mm)
footprint CT 5.0*10*13 - R (脚距5mm , 直径10mm , 高13mm)
footprint CT 5.0*10*13 - V (脚距5mm , 直径10mm , 高13mm)
pins: 1, 2
text: +

## CS_SMD
designator E?, comment 10uF/10V
贴片固态电容; 联系下单店铺卖家 免费帮你查找封装: 联系下单店铺卖家 免费技术支持; BOM名称: 贴片固态电容
footprint CS 5*6 - B (直径5mm，高6mm)
footprint CS 5*6 - R (直径5mm，高6mm)
footprint CS 5*6 - V (直径5mm，高6mm)
footprint CS 6*4 - B (直径6mm，高4mm)
footprint CS 6*4 - R (直径6mm，高4mm)
footprint CS 6*4 - V (直径6mm，高4mm)
footprint CS 6*6 - B (直径6mm，高6mm)
footprint CS 6*6 - R (直径6mm，高6mm)
footprint CS 6*6 - V (直径6mm，高6mm)
footprint CS 8*7 - B (直径8mm，高7mm)
footprint CS 8*7 - R (直径8mm，高7mm)
footprint CS 8*7 - V (直径8mm，高7mm)
footprint CS 8*12 - B (直径8mm，高12mm)
footprint CS 8*12 - R (直径8mm，高12mm)
footprint CS 8*12 - V (直径8mm，高12mm)
footprint CS 10*6 - B (直径10mm，高6mm)
footprint CS 10*6 - R (直径10mm，高6mm)
footprint CS 10*6 - V (直径10mm，高6mm)
footprint CS 10*8 - B (直径10mm，高8mm)
footprint CS 10*8 - R (直径10mm，高8mm)
footprint CS 10*8 - V (直径10mm，高8mm)
footprint CS 10*13 - B (直径10mm，高13mm)
footprint CS 10*13 - R (直径10mm，高13mm)
footprint CS 10*13 - V (直径10mm，高13mm)
pins: 1, 2
text: +

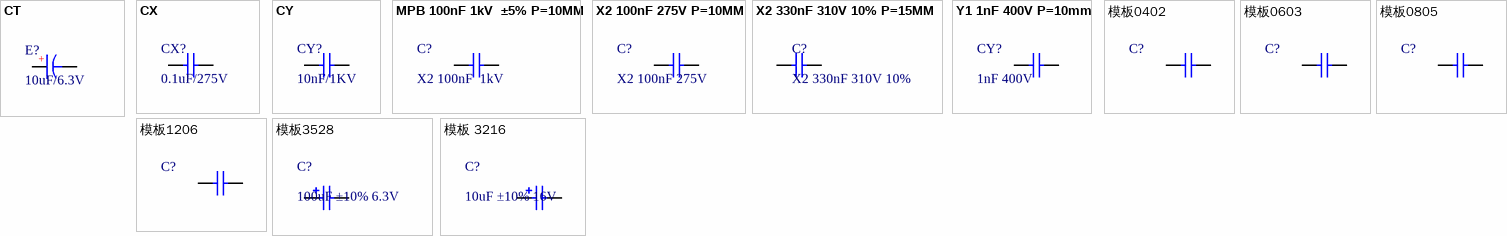
[diagram p2: symbols CT to 模板 3216]

## CT
designator E?, comment 10uF/6.3V
贴片钽电容; 当前库版本V2023.5.31 @淘宝卖家:黄晶宝石: 最新版本发布https://item.taobao.com/item.htm?id=566775463719; BOM名称: 贴片钽电容
footprint C_3216 (A型贴片钽电容 长3.2mm，宽1.6mm，厚1.6mm)
footprint C_3528 (B型贴片钽电容 长3.5mm，宽2.8mm，厚1.9mm)
footprint C_6032 (C型贴片钽电容 长6.0mm，宽3.2mm，厚2.5mm)
footprint C_7343 (D型贴片钽电容 长7.3mm，宽4.3mm，厚2.8mm)
footprint C_7343H (E型4mm高度贴片钽电容 长7.3mm，宽4.3mm，厚4.0mm)
footprint C_2012 (S型贴片钽电容 长2.0mm，宽1.25mm，厚1.2mm)
pins: 1 A, 2 K
text: +

## CX
designator CX?, comment 0.1uF/275V
安规X电容; BOM名称: X电容; 当前库版本V2023.5.31 @淘宝卖家:黄晶宝石: 最新版本发布https://item.taobao.com/item.htm?id=566775463719
footprint CX 10*13*11 (脚距10mm高13mm厚11mm)
footprint CX 15*18*11 (脚距15mm高18mm厚11mm)
pins: 1, 2

## CY
designator CY?, comment 10nF/1KV
安规Y电容; BOM名称: 高压陶瓷电容，Y电容; 当前库版本V2023.5.31 @淘宝卖家:黄晶宝石: 最新版本发布https://item.taobao.com/item.htm?id=566775463719
footprint CY 7.5*8*4 (脚距7.5mm，直径8mm，厚4mm)
footprint CY 7.5*10*4 (脚距7.5mm，直径10mm，厚4mm)
footprint CY 7.5*12*5 (脚距7.5mm，直径12mm，厚5mm)
footprint CY 10*14*5 (脚距10mm，直径14mm，厚5mm)
footprint CY 10*16*6 (脚距10mm，直径16mm，厚6mm)
footprint CY 10*18*6 (脚距10mm，直径18mm，厚6mm)
footprint CY 5*7*2.5 (脚距5mm，直径7mm，厚2.5mm)
pins: 1, 2

## MPB 100nF 1kV  ±5% P=10MM
designator C?, comment X2 100nF  1kV
金属化聚丙烯薄膜电容器; 厂家型号: MPB 100nF 1kV  ±5% P=10MM; 金蝶料号: 010101070009; 工作温度: -55~125℃; 插件/贴片: 插件; 值: 100nF 1kV  ±5%; 器件状态: 启用
footprint CX 10*13*11 (脚距10mm高13mm厚11mm)
pins: 1, 2

## X2 100nF 275V P=10MM
designator C?, comment X2 100nF 275V
X电容 X2 100nF 275V; 厂家: 松田; 厂家型号: X2104K275VAC; 金蝶料号: 010101070004; 工作温度: -55~125℃; 插件/贴片: 插件; 值: 15Ω ±1% 100mW 0603; 器件状态: 启用
footprint CX 10*13*11 (脚距10mm高13mm厚11mm)
pins: 1, 2

## X2 330nF 310V 10% P=15MM
designator C?, comment X2 330nF 310V 10%
金蝶料号: 010101070010; 工作温度: -55~125℃; 插件/贴片: 插件; 器件状态: 启用; 厂家型号: X2 330nF 310V 10%; 值: X2 330nF 310V 10%
footprint CX 18*13.5*7.5 (宽:18mm 高:13.5mm 厚7.5mm)
pins: 1, 2

## Y1 1nF 400V P=10mm
designator CY?, comment 1nF 400V
Y1 1nF 400V P=10mm; 厂家: 松田; 厂家型号: Y1400VAC2F1D102M; 金蝶料号: 010101070005; 工作温度: -55~125℃; 插件/贴片: 插件; 器件状态: 启用; 值: Y1 1nF 400V P=10mm
footprint CY P=10mm
pins: 1, 2

## 模板0402
designator C?
贴片电容; 厂家: 风华; 工作温度: -55~125℃; 插件/贴片: 贴片; 器件状态: 启用; 厂家型号: *; 金蝶料号: *; 值: *
footprint 0402_C
pins: 1, 2

## 模板0603
designator C?
贴片电容; 厂家: 风华; 工作温度: -55~125℃; 插件/贴片: 贴片; 器件状态: 启用; 厂家型号: *; 金蝶料号: *; 值: *
footprint 0603_C
pins: 1, 2

## 模板0805
designator C?
贴片电容; 厂家: 风华; 工作温度: -55~125℃; 插件/贴片: 贴片; 器件状态: 启用; 厂家型号: *; 金蝶料号: *; 值: *
footprint 0805_C
pins: 1, 2

## 模板1206
designator C?
贴片电容; 厂家: 风华; 工作温度: -55~125℃; 插件/贴片: 贴片; 器件状态: 启用; 厂家型号: *; 金蝶料号: *; 值: *
footprint 1206_C
pins: 1, 2

## 模板3528
designator C?, comment 100uF ±10% 6.3V
钽电容; 厂家型号: *
footprint CASE-B_3528
pins: 1, 2

## 模板 3216
designator C?, comment 10uF ±10% 16V
钽电容; ComponentLink1Description: 供应商链接; ComponentLink1URL: http://www.szlcsc.com/product/details_7643.html; SuppliersPartNumber: C7171
footprint CASE-A_3216
pins: 1, 2